# Altium footprint library PCB_国产飞控 led端子 copy copy.PcbLib: 28 footprints (part 2 of 2)
Each footprint in its own frame and in the unit in brackets; x right, y up, seen from the top. Pads: shape width x height; smd on the part's side, far side on the other; paste and mask are expansions set on the pad; w line width, h text height; cw(c..) or ccw(c..) is an arc to the next point about the centre after c.
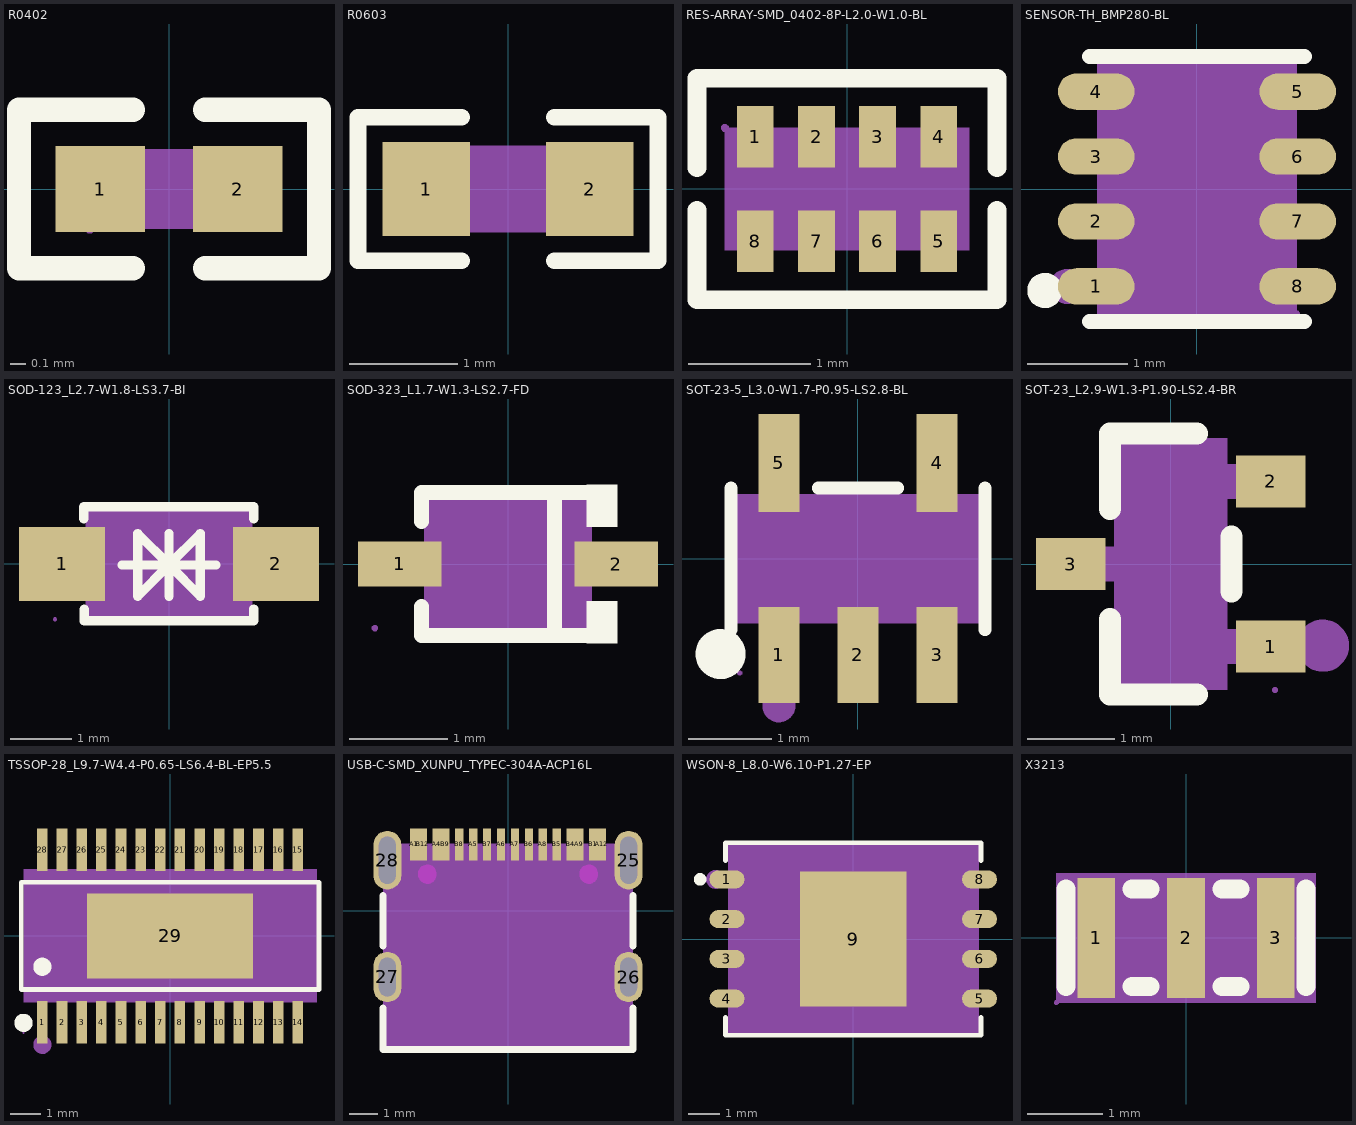
[diagram p1: the footprints below, top view; thin cyan lines are the x and y axes]

## R0402 [mm]
pads (2):
  rect 0.566x0.54 smd paste-100 mask+0.051: 1(-0.433,0) 2(0.433,0)
Top Overlay:
  lines w0.152: -0.226,-0.499 -0.944,-0.499 -0.944,0.499 -0.226,0.499 ; 0.226,-0.499 0.944,-0.499 0.944,0.499 0.226,0.499
Top Paste:
  region: -0.135,-0.23 -0.135,0.23 -0.175,0.27 -0.676,0.27 -0.716,0.23 -0.716,-0.23 -0.676,-0.27 -0.175,-0.27
  region: 0.135,-0.23 0.135,0.23 0.175,0.27 0.676,0.27 0.716,0.23 0.716,-0.23 0.676,-0.27 0.175,-0.27
Mechanical 9:
  region: -0.5,-0.25 -0.5,0.25 0.5,0.25 0.5,-0.25
Mechanical 11:
  region: -0.47,-0.25 -0.47,-0.262 -0.487,-0.28 -0.512,-0.28 -0.53,-0.262 -0.53,-0.25 -0.53,-0.238 -0.512,-0.22 -0.487,-0.22 -0.47,-0.238 -0.47,-0.25
Mechanical 12:
  region: -0.249,0.25 -0.249,-0.25 -0.499,-0.25 -0.499,0.25
  region: 0.251,-0.25 0.251,0.25 0.501,0.25 0.501,-0.25

## R0603 [mm]
pads (2):
  rect 0.806x0.864 smd paste-100 mask+0.051: 1(-0.753,0) 2(0.753,0)
Top Overlay:
  lines w0.152: -0.426,-0.661 -1.385,-0.661 -1.385,0.661 -0.426,0.661 ; 0.426,-0.661 1.385,-0.661 1.385,0.661 0.426,0.661
Top Paste:
  region: -0.355,0.4 -0.355,0.172 -0.735,0.172 -0.735,-0.158 -0.355,-0.158 -0.355,-0.4 -0.405,-0.45 -1.195,-0.45 -1.245,-0.4 -1.245,0.4 -1.195,0.45 -0.405,0.45
  region: 1.195,0.45 0.395,0.45 0.345,0.4 0.345,0.172 0.715,0.172 0.715,-0.158 0.345,-0.158 0.345,-0.4 0.395,-0.45 1.195,-0.45 1.245,-0.4 1.245,0.4
Mechanical 9:
  region: -0.8,-0.4 -0.8,0.4 0.8,0.4 0.8,-0.4
Mechanical 11:
  region: -0.77,-0.4 -0.77,-0.388 -0.788,-0.37 -0.813,-0.37 -0.83,-0.388 -0.83,-0.4 -0.83,-0.412 -0.813,-0.43 -0.788,-0.43 -0.77,-0.412 -0.77,-0.4
Mechanical 12:
  region: 0.8,-0.4 0.8,0.4 0.5,0.4 0.5,-0.4
  region: -0.8,-0.4 -0.8,0.4 -0.5,0.4 -0.5,-0.4

## RES-ARRAY-SMD_0402-8P-L2.0-W1.0-BL [mm]
pads (8):
  rect 0.3x0.505 smd paste+0 mask+0.051: 1(-0.75,0.427) 2(-0.25,0.427) 3(0.25,0.427) 4(0.75,0.427) 5(0.75,-0.427) 6(0.25,-0.427) 7(-0.25,-0.427) 8(-0.75,-0.427)
Top Overlay:
  lines w0.152: -1.229,-0.175 -1.229,-0.909 1.229,-0.909 1.229,-0.175 ; -1.229,0.175 -1.229,0.909 1.229,0.909 1.229,0.175
Mechanical 9:
  region: -1,0.5 -1,-0.5 1,-0.5 1,0.5
Mechanical 11:
  region: -0.97,0.5 -0.97,0.512 -0.988,0.53 -1.012,0.53 -1.03,0.512 -1.03,0.5 -1.03,0.487 -1.012,0.47 -0.988,0.47 -0.97,0.487 -0.97,0.5
Mechanical 12:
  region: 0.6,-0.5 0.6,-0.2 0.9,-0.2 0.9,-0.5
  region: 0.1,-0.5 0.1,-0.2 0.4,-0.2 0.4,-0.5
  region: -0.4,-0.5 -0.4,-0.2 -0.1,-0.2 -0.1,-0.5
  region: -0.9,-0.5 -0.9,-0.2 -0.6,-0.2 -0.6,-0.5
  region: 0.6,0.5 0.6,0.2 0.9,0.2 0.9,0.5
  region: 0.1,0.5 0.1,0.2 0.4,0.2 0.4,0.5
  region: -0.4,0.5 -0.4,0.2 -0.1,0.2 -0.1,0.5
  region: -0.9,0.5 -0.9,0.2 -0.6,0.2 -0.6,0.5

## SENSOR-TH_BMP280-BL [mm]
pads (8):
  oval 0.767x0.364 smd paste+0 mask+0.051: 1(-1.008,-0.975) 2(-1.008,-0.325) 3(-1.008,0.325) 4(-1.008,0.975) 5(1.009,0.975) 6(1.009,0.325) 7(1.009,-0.325) 8(1.009,-0.975)
Top Overlay:
  circle w0.175: c-1.524,-1.016 r0.088
  lines w0.152: -1.076,-1.326 1.076,-1.326 ; -1.076,1.326 1.076,1.326
Mechanical 5:
  circle w0.175: c-1.3,-0.975 r0.088
Mechanical 9:
  region: 1,-1.25 -1,-1.25 -1,1.25 1,1.25
Mechanical 11:
  region: 0.97,-1.25 0.97,-1.262 0.988,-1.28 1.012,-1.28 1.03,-1.262 1.03,-1.25 1.03,-1.238 1.012,-1.22 0.988,-1.22 0.97,-1.238 0.97,-1.25
Mechanical 12:
  region: -1,-1.15 -0.65,-1.15 -0.65,-0.8 -1,-0.8
  region: -1,-0.5 -0.65,-0.5 -0.65,-0.15 -1,-0.15
  region: -1,0.15 -0.65,0.15 -0.65,0.5 -1,0.5
  region: -1,0.8 -0.65,0.8 -0.65,1.15 -1,1.15
  region: 1,0.8 0.65,0.8 0.65,1.15 1,1.15
  region: 1,0.15 0.65,0.15 0.65,0.5 1,0.5
  region: 1,-0.5 0.65,-0.5 0.65,-0.15 1,-0.15
  region: 1,-1.15 0.65,-1.15 0.65,-0.8 1,-0.8

## SOD-123_L2.7-W1.8-LS3.7-BI [mm]
pads (2):
  rect 1.4x1.2 smd paste+0 mask+0.051: 1(-1.735,0) 2(1.735,0)
Top Overlay:
  lines w0.15: -0.762,-0.016 0.762,-0.016 ; 0,-0.524 0,0.492 ; 0,-0.27 0,0.238 ; 0,-0.016 0.508,0.492 0.508,-0.524 0,-0.016 ; 0,-0.016 -0.508,-0.524 -0.508,0.492 0,-0.016
  lines w0.152: -1.382,0.732 -1.382,0.925 ; -1.377,-0.927 -1.377,-0.734 ; -1.376,-0.926 1.376,-0.926 1.376,-0.733 ; -1.376,0.926 1.376,0.926 1.376,0.733
Mechanical 9:
  region: -1.35,-0.9 -1.35,0.9 1.35,0.9 1.35,-0.9
Mechanical 11:
  region: -1.85,-0.93 -1.837,-0.93 -1.82,-0.912 -1.82,-0.888 -1.837,-0.87 -1.85,-0.87 -1.862,-0.87 -1.88,-0.888 -1.88,-0.912 -1.862,-0.93 -1.85,-0.93
Mechanical 12:
  region: 1.25,-0.5 1.25,0.5 1.85,0.5 1.85,-0.5
  region: -1.85,-0.5 -1.85,0.5 -1.25,0.5 -1.25,-0.5

## SOD-323_L1.7-W1.3-LS2.7-FD [mm]
pads (2):
  rect 0.845x0.455 smd paste+0 mask+0.051: 1(-1.098,0) 2(1.098,0)
Top Overlay:
  region: 0.8,0.802 0.8,0.38 1.105,0.38 1.105,0.802
  region: 0.8,-0.802 0.8,-0.38 1.105,-0.38 1.105,-0.802
  lines w0.152: -0.876,-0.431 -0.876,-0.726 0.876,-0.726 ; -0.876,0.431 -0.876,0.726 0.876,0.726 ; 0.472,-0.726 0.472,0.726
Mechanical 5:
  region: 1.044,0.078 1.044,-0.078 0.42,-0.078 0.42,0.078
  region: -1.044,0.078 -1.044,-0.078 -0.42,-0.078 -0.42,0.078
  region: -0.81,0.52 -0.81,-0.52 -0.654,-0.52 -0.654,0.52
Mechanical 9:
  region: -0.85,0.65 -0.85,-0.65 0.85,-0.65 0.85,0.65
Mechanical 10:
  region: -0.84,-0.15 -0.84,0.15 -1.08,0.15 -1.08,-0.15
  region: 1.08,-0.15 1.08,0.15 0.84,0.15 0.84,-0.15
Mechanical 11:
  region: -1.35,-0.68 -1.338,-0.68 -1.32,-0.662 -1.32,-0.638 -1.338,-0.62 -1.35,-0.62 -1.362,-0.62 -1.38,-0.638 -1.38,-0.662 -1.362,-0.68 -1.35,-0.68
Mechanical 12:
  region: -1.07,-0.15 -1.07,0.15 -1.325,0.15 -1.325,-0.15
  region: 1.325,-0.15 1.325,0.15 1.07,0.15 1.07,-0.15

## SOT-23-5_L3.0-W1.7-P0.95-LS2.8-BL [mm]
pads (5):
  rect 0.49x1.157 smd paste+0 mask+0.051: 1(-0.95,-1.154) 2(0,-1.154) 3(0.95,-1.154)
  rect 0.49x1.175 smd paste+0 mask+0.051: 4(0.95,1.154) 5(-0.95,1.154)
Top Overlay:
  circle w0.3: c-1.651,-1.143 r0.15
  lines w0.152: -1.526,-0.851 -1.526,0.851 ; -0.476,0.851 0.476,0.851 ; 1.526,-0.851 1.526,0.851
Mechanical 5:
  circle w0.2: c-0.95,-1.763 r0.1
Mechanical 9:
  region: -1.45,0.775 1.45,0.775 1.45,-0.775 -1.45,-0.775
Mechanical 10:
  region: -1.125,-1.01 -1.125,-0.74 -0.775,-0.74 -0.775,-1.01
  region: -0.175,-1.01 -0.175,-0.74 0.175,-0.74 0.175,-1.01
  region: 0.775,-1.01 0.775,-0.74 1.125,-0.74 1.125,-1.01
  region: 0.775,0.74 0.775,1.01 1.125,1.01 1.125,0.74
  region: -1.125,0.74 -1.125,1.01 -0.775,1.01 -0.775,0.74
Mechanical 11:
  region: -1.42,-1.34 -1.408,-1.34 -1.39,-1.358 -1.39,-1.382 -1.408,-1.4 -1.42,-1.4 -1.433,-1.4 -1.45,-1.382 -1.45,-1.358 -1.433,-1.34 -1.42,-1.34
Mechanical 12:
  region: -1.125,-1.4 -1.125,-1 -0.775,-1 -0.775,-1.4
  region: -0.175,-1.4 -0.175,-1 0.175,-1 0.175,-1.4
  region: 0.775,-1.4 0.775,-1 1.125,-1 1.125,-1.4
  region: 0.775,1 0.775,1.4 1.125,1.4 1.125,1
  region: -1.125,1 -1.125,1.4 -0.775,1.4 -0.775,1

## SOT-23_L2.9-W1.3-P1.90-LS2.4-BR [mm]
pads (3):
  rect 0.8x0.6 smd paste+0 mask+0.051: 1(1.15,-0.95) 2(1.15,0.95) 3(-1.15,0)
Top Overlay:
  lines w0.254: -0.7,-0.636 -0.7,-1.5 0.3,-1.5 ; -0.7,0.636 -0.7,1.5 0.3,1.5 ; 0.7,-0.314 0.7,0.314
Mechanical 5:
  circle w0.3: c1.753,-0.94 r0.15
Mechanical 9:
  region: -0.65,-1.45 -0.65,1.45 0.65,1.45 0.65,-1.45
Mechanical 10:
  region: -0.81,-0.2 -0.81,0.2 -0.64,0.2 -0.64,-0.2
  region: 0.64,0.75 0.64,1.15 0.81,1.15 0.81,0.75
  region: 0.64,-1.15 0.64,-0.75 0.81,-0.75 0.81,-1.15
Mechanical 11:
  region: 1.17,-1.45 1.17,-1.463 1.188,-1.48 1.213,-1.48 1.23,-1.463 1.23,-1.45 1.23,-1.438 1.213,-1.42 1.188,-1.42 1.17,-1.438 1.17,-1.45
Mechanical 12:
  region: -1.2,-0.2 -1.2,0.2 -0.8,0.2 -0.8,-0.2
  region: 0.8,0.75 0.8,1.15 1.2,1.15 1.2,0.75
  region: 0.8,-1.15 0.8,-0.75 1.2,-0.75 1.2,-1.15

## TSSOP-28_L9.7-W4.4-P0.65-LS6.4-BL-EP5.5 [mm]
pads (29):
  rect 0.35x1.4 smd paste+0 mask+0.051: 1(-4.225,-2.85) 2(-3.575,-2.85) 3(-2.925,-2.85) 4(-2.275,-2.85) 5(-1.625,-2.85) 6(-0.975,-2.85) 7(-0.325,-2.85) 8(0.325,-2.85) 9(0.975,-2.85) 10(1.625,-2.85) 11(2.275,-2.85) 12(2.925,-2.85) 13(3.575,-2.85) 14(4.225,-2.85) 15(4.225,2.85) 16(3.575,2.85) 17(2.925,2.85) 18(2.275,2.85) 19(1.625,2.85) 20(0.975,2.85) 21(0.325,2.85) 22(-0.325,2.85) 23(-0.975,2.85) 24(-1.625,2.85) 25(-2.275,2.85) 26(-2.925,2.85) 27(-3.575,2.85) 28(-4.225,2.85)
  rect 5.5x2.8 smd paste+0 mask+0.05: 29(0,0)
Top Overlay:
  circle w0.3: c-4.849,-2.873 r0.15
  circle w0.3: c-4.225,-1.019 r0.15
  lines w0.152: -4.926,-1.771 4.926,-1.771 4.926,1.772 -4.926,1.772 -4.926,-1.771
Mechanical 5:
  circle w0.3: c-4.225,-3.6 r0.15
Mechanical 9:
  region: -4.85,-2.2 -4.85,2.2 4.85,2.2 4.85,-2.2
Mechanical 10:
  region: 4.103,2.585 4.103,2.19 4.347,2.19 4.347,2.585
  region: 3.452,2.585 3.452,2.19 3.698,2.19 3.698,2.585
  region: 2.803,2.585 2.803,2.19 3.047,2.19 3.047,2.585
  region: 2.152,2.585 2.152,2.19 2.398,2.19 2.398,2.585
  region: 1.503,2.585 1.503,2.19 1.747,2.19 1.747,2.585
  region: 0.853,2.585 0.853,2.19 1.098,2.19 1.098,2.585
  region: 0.202,2.585 0.202,2.19 0.447,2.19 0.447,2.585
  region: -0.447,2.585 -0.447,2.19 -0.202,2.19 -0.202,2.585
  region: -1.098,2.585 -1.098,2.19 -0.853,2.19 -0.853,2.585
  region: -1.747,2.585 -1.747,2.19 -1.503,2.19 -1.503,2.585
  region: -2.398,2.585 -2.398,2.19 -2.152,2.19 -2.152,2.585
  region: -3.047,2.585 -3.047,2.19 -2.803,2.19 -2.803,2.585
  region: -3.698,2.585 -3.698,2.19 -3.452,2.19 -3.452,2.585
  region: -4.347,2.585 -4.347,2.19 -4.103,2.19 -4.103,2.585
  region: 4.103,-2.585 4.103,-2.19 4.347,-2.19 4.347,-2.585
  region: 3.452,-2.585 3.452,-2.19 3.698,-2.19 3.698,-2.585
  region: 2.803,-2.585 2.803,-2.19 3.047,-2.19 3.047,-2.585
  region: 2.152,-2.585 2.152,-2.19 2.398,-2.19 2.398,-2.585
  region: 1.503,-2.585 1.503,-2.19 1.747,-2.19 1.747,-2.585
  region: 0.853,-2.585 0.853,-2.19 1.098,-2.19 1.098,-2.585
  region: 0.202,-2.585 0.202,-2.19 0.447,-2.19 0.447,-2.585
  region: -0.447,-2.585 -0.447,-2.19 -0.202,-2.19 -0.202,-2.585
  region: -1.098,-2.585 -1.098,-2.19 -0.853,-2.19 -0.853,-2.585
  region: -1.747,-2.585 -1.747,-2.19 -1.503,-2.19 -1.503,-2.585
  region: -2.398,-2.585 -2.398,-2.19 -2.152,-2.19 -2.152,-2.585
  region: -3.047,-2.585 -3.047,-2.19 -2.803,-2.19 -2.803,-2.585
  region: -3.698,-2.585 -3.698,-2.19 -3.452,-2.19 -3.452,-2.585
  region: -4.347,-2.585 -4.347,-2.19 -4.103,-2.19 -4.103,-2.585
Mechanical 11:
  region: -4.82,-3.2 -4.82,-3.187 -4.837,-3.17 -4.862,-3.17 -4.88,-3.187 -4.88,-3.2 -4.88,-3.212 -4.862,-3.23 -4.837,-3.23 -4.82,-3.212 -4.82,-3.2
Mechanical 12:
  region: -2.75,1.525 2.75,1.525 2.75,-1.525 -2.75,-1.525
  region: 4.103,3.2 4.103,2.575 4.347,2.575 4.347,3.2
  region: 3.452,3.2 3.452,2.575 3.698,2.575 3.698,3.2
  region: 2.803,3.2 2.803,2.575 3.047,2.575 3.047,3.2
  region: 2.152,3.2 2.152,2.575 2.398,2.575 2.398,3.2
  region: 1.503,3.2 1.503,2.575 1.747,2.575 1.747,3.2
  region: 0.853,3.2 0.853,2.575 1.098,2.575 1.098,3.2
  region: 0.202,3.2 0.202,2.575 0.447,2.575 0.447,3.2
  region: -0.447,3.2 -0.447,2.575 -0.202,2.575 -0.202,3.2
  region: -1.098,3.2 -1.098,2.575 -0.853,2.575 -0.853,3.2
  region: -1.747,3.2 -1.747,2.575 -1.503,2.575 -1.503,3.2
  region: -2.398,3.2 -2.398,2.575 -2.152,2.575 -2.152,3.2
  region: -3.047,3.2 -3.047,2.575 -2.803,2.575 -2.803,3.2
  region: -3.698,3.2 -3.698,2.575 -3.452,2.575 -3.452,3.2
  region: -4.347,3.2 -4.347,2.575 -4.103,2.575 -4.103,3.2
  region: 4.103,-3.2 4.103,-2.575 4.347,-2.575 4.347,-3.2
  region: 3.452,-3.2 3.452,-2.575 3.698,-2.575 3.698,-3.2
  region: 2.803,-3.2 2.803,-2.575 3.047,-2.575 3.047,-3.2
  region: 2.152,-3.2 2.152,-2.575 2.398,-2.575 2.398,-3.2
  region: 1.503,-3.2 1.503,-2.575 1.747,-2.575 1.747,-3.2
  region: 0.853,-3.2 0.853,-2.575 1.098,-2.575 1.098,-3.2
  region: 0.202,-3.2 0.202,-2.575 0.447,-2.575 0.447,-3.2
  region: -0.447,-3.2 -0.447,-2.575 -0.202,-2.575 -0.202,-3.2
  region: -1.098,-3.2 -1.098,-2.575 -0.853,-2.575 -0.853,-3.2
  region: -1.747,-3.2 -1.747,-2.575 -1.503,-2.575 -1.503,-3.2
  region: -2.398,-3.2 -2.398,-2.575 -2.152,-2.575 -2.152,-3.2
  region: -3.047,-3.2 -3.047,-2.575 -2.803,-2.575 -2.803,-3.2
  region: -3.698,-3.2 -3.698,-2.575 -3.452,-2.575 -3.452,-3.2
  region: -4.347,-3.2 -4.347,-2.575 -4.103,-2.575 -4.103,-3.2

## USB-C-SMD_XUNPU_TYPEC-304A-ACP16L [mm]
pads (20):
  oval 1x2.1 hole 0.6 slot 1.7 at 90 deg paste+0 mask+0.05: 25(4.32,1.807) 28(-4.32,1.808)
  oval 1x1.8 hole 0.6 slot 1.4 at 90 deg copper offset 0,0 paste+0 mask+0.05: 26(4.32,-2.373) 27(-4.32,-2.372)
  rect 0.3x1.15 smd paste-100 mask+0.05: A1(-3.35,2.373) A4(-2.55,2.373) A5(-1.25,2.373) A6(-0.25,2.373) A7(0.25,2.373) A8(1.25,2.373) A9(2.55,2.373) A12(3.35,2.373) B1(3.05,2.373) B4(2.25,2.373) B5(1.75,2.373) B6(0.75,2.373) B7(-0.75,2.373) B8(-1.75,2.373) B9(-2.25,2.373) B12(-3.05,2.373)
Top Overlay:
  lines w0.254: -4.47,-3.488 -4.47,-4.972 4.47,-4.972 4.47,-3.488 ; -4.47,-1.257 -4.47,0.542 ; 4.47,-1.257 4.47,0.542
Top Paste:
  drawing of 16 lines, arcs and shapes, not listed
Keep-Out Layer:
  circle w0.003: c2.89,1.308 r0.325
  circle w0.003: c-2.89,1.308 r0.325
  region: 2.89,0.983 2.955,0.983 3.074,1.032 3.166,1.124 3.215,1.243 3.215,1.372 3.166,1.492 3.074,1.583 2.955,1.633 2.89,1.633 2.825,1.633 2.706,1.583 2.614,1.492 2.565,1.372 2.565,1.243 2.614,1.124 2.706,1.032 2.825,0.983 2.89,0.983
  region: 2.89,0.983 2.955,0.983 3.074,1.032 3.166,1.124 3.215,1.243 3.215,1.372 3.166,1.492 3.074,1.583 2.955,1.633 2.89,1.633 2.825,1.633 2.706,1.583 2.614,1.492 2.565,1.372 2.565,1.243 2.614,1.124 2.706,1.032 2.825,0.983 2.89,0.983
  region: -2.89,0.983 -2.825,0.983 -2.706,1.032 -2.614,1.124 -2.565,1.243 -2.565,1.372 -2.614,1.492 -2.706,1.583 -2.825,1.633 -2.89,1.633 -2.955,1.633 -3.074,1.583 -3.166,1.492 -3.215,1.372 -3.215,1.243 -3.166,1.124 -3.074,1.032 -2.955,0.983 -2.89,0.983
  region: -2.89,0.983 -2.825,0.983 -2.706,1.032 -2.614,1.124 -2.565,1.243 -2.565,1.372 -2.614,1.492 -2.706,1.583 -2.825,1.633 -2.89,1.633 -2.955,1.633 -3.074,1.583 -3.166,1.492 -3.215,1.372 -3.215,1.243 -3.166,1.124 -3.074,1.032 -2.955,0.983 -2.89,0.983
Mechanical 1:
  circle w0.003: c2.89,1.308 r0.325
  circle w0.003: c-2.89,1.308 r0.325
Mechanical 5:
  circle w0.25: c2.89,1.308 r0.125
  circle w0.25: c-2.89,1.308 r0.125
  region: -3,0 3,0 3,-0.5 -3,-0.5
  region: 3.5,-4.5 3.5,0 3,0 3,-4.5
  region: -3.5,-4.5 -3.5,0 -3,0 -3,-4.5
Mechanical 9:
  region: -4.47,-4.96 -4.47,2.39 4.47,2.39 4.47,-4.96
Mechanical 11:
  region: -4.47,2.59 -4.458,2.59 -4.44,2.607 -4.44,2.632 -4.458,2.65 -4.47,2.65 -4.483,2.65 -4.5,2.632 -4.5,2.607 -4.483,2.59 -4.47,2.59
Mechanical 12:
  region: 4.17,-1.972 4.47,-1.972 4.47,-2.772 4.17,-2.772
  region: -4.47,-1.972 -4.17,-1.972 -4.17,-2.772 -4.47,-2.772
  region: 4.17,2.358 4.47,2.358 4.47,1.258 4.17,1.258
  region: -4.47,2.358 -4.17,2.358 -4.17,1.258 -4.47,1.258
  region: 3.169,2.62 3.369,2.62 3.369,2.12 3.169,2.12
  region: 2.95,2.62 3.15,2.62 3.15,2.12 2.95,2.12
  region: 2.37,2.619 2.57,2.619 2.57,2.119 2.37,2.119
  region: 2.15,2.619 2.35,2.619 2.35,2.119 2.15,2.119
  region: 1.65,2.62 1.85,2.62 1.85,2.12 1.65,2.12
  region: 1.15,2.62 1.35,2.62 1.35,2.12 1.15,2.12
  region: 0.65,2.62 0.85,2.62 0.85,2.12 0.65,2.12
  region: 0.15,2.62 0.35,2.62 0.35,2.12 0.15,2.12
  region: -0.35,2.62 -0.15,2.62 -0.15,2.12 -0.35,2.12
  region: -0.85,2.62 -0.65,2.62 -0.65,2.12 -0.85,2.12
  region: -1.35,2.62 -1.15,2.62 -1.15,2.12 -1.35,2.12
  region: -1.85,2.62 -1.65,2.62 -1.65,2.12 -1.85,2.12
  region: -2.35,2.62 -2.15,2.62 -2.15,2.12 -2.35,2.12
  region: -2.57,2.62 -2.37,2.62 -2.37,2.12 -2.57,2.12
  region: -3.15,2.62 -2.95,2.62 -2.95,2.12 -3.15,2.12
  region: -3.37,2.62 -3.17,2.62 -3.17,2.12 -3.37,2.12

## WSON-8_L8.0-W6.10-P1.27-EP [mm]
pads (9):
  oval 1.115x0.581 smd paste+0 mask+0.051: 1(-4.033,1.905) 2(-4.033,0.635) 3(-4.033,-0.635) 4(-4.033,-1.905) 5(4.033,-1.905) 6(4.033,-0.635) 7(4.033,0.635) 8(4.033,1.905)
  rect 3.4x4.3 smd paste+0 mask+0.051: 9(0,0)
Top Overlay:
  circle w0.2: c-4.891,1.905 r0.1
  lines w0.152: -4.076,-2.5 -4.076,-3.076 4.076,-3.076 4.076,-2.5 ; -4.076,2.5 -4.076,3.076 4.076,3.076 4.076,2.5
Mechanical 5:
  circle w0.3: c-4.4,1.905 r0.15
Mechanical 9:
  region: -4,3 4,3 4,-3 -4,-3
Mechanical 11:
  region: -3.97,3 -3.97,2.987 -3.988,2.97 -4.012,2.97 -4.03,2.987 -4.03,3 -4.03,3.012 -4.012,3.03 -3.988,3.03 -3.97,3.012 -3.97,3
Mechanical 12:
  region: -1.02,2.15 1.7,2.15 1.7,-2.15 -1.7,-2.15 -1.7,1.47
  region: 4,-1.698 3.5,-1.698 3.5,-2.112 4,-2.112
  region: 4,-0.428 3.5,-0.428 3.5,-0.842 4,-0.842
  region: 4,0.842 3.5,0.842 3.5,0.428 4,0.428
  region: 4,2.112 3.5,2.112 3.5,1.698 4,1.698
  region: -4,-1.698 -3.5,-1.698 -3.5,-2.112 -4,-2.112
  region: -4,-0.428 -3.5,-0.428 -3.5,-0.842 -4,-0.842
  region: -4,0.842 -3.5,0.842 -3.5,0.428 -4,0.428
  region: -4,2.112 -3.5,2.112 -3.5,1.698 -4,1.698

## X3213 [mm]
pads (3):
  rect 0.5x1.6 smd paste+0 mask+0.051: 1(-1.199,0) 2(0,0) 3(1.199,0)
Top Overlay:
  lines w0.254: -1.6,-0.65 -1.6,0.65 ; -0.718,-0.65 -0.481,-0.65 ; -0.718,0.65 -0.481,0.65 ; 0.481,-0.65 0.718,-0.65 ; 0.481,0.65 0.718,0.65 ; 1.6,-0.65 1.6,0.65
Mechanical 9:
  region: -1.727,0.864 1.727,0.864 1.727,-0.864 0,-0.864 -1.727,-0.864
Mechanical 11:
  region: -1.727,-0.834 -1.74,-0.834 -1.757,-0.851 -1.757,-0.876 -1.74,-0.894 -1.727,-0.894 -1.715,-0.894 -1.697,-0.876 -1.697,-0.851 -1.715,-0.834 -1.727,-0.834
Mechanical 12:
  region: 0.94,-0.813 0.94,0.787 1.44,0.787 1.44,-0.813
  region: -1.448,-0.787 -1.448,0.813 -0.948,0.813 -0.948,-0.787
  region: -0.25,-0.8 -0.25,0.8 0.25,0.8 0.25,-0.8